# Altium integrated library EEUTA1H220.IntLib: 1 symbol
Pins are listed as number, name and electrical type; pins without a type are passive.

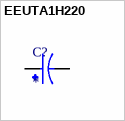
[diagram p0: symbol EEUTA1H220]

## EEUTA1H220
designator C?
22F 50V Aluminum Electrolytic Capacitors Radial, Can 2000 Hrs @ 125C; MP: EEU-TA1H220; MF: Panasonic; Check_prices: https://www.snapeda.com/parts/EEU-TA1H220/Panasonic/view-part/?ref=eda; Package: RADIAL-2 Panasonic; Price: None; Availability: In Stock; Purchase-URL: https://pricing.snapeda.com/search/part/EEU-TA1H220/?ref=eda; SnapEDA_Link: https://www.snapeda.com/parts/EEU-TA1H220/Panasonic/view-part/?ref=snap; Value: *
footprint CAPPRD350W60D800H1150
pins: N, P